# Altium integrated library WE-CBF (rev24a).IntLib: 180 symbols (part 2 of 4)
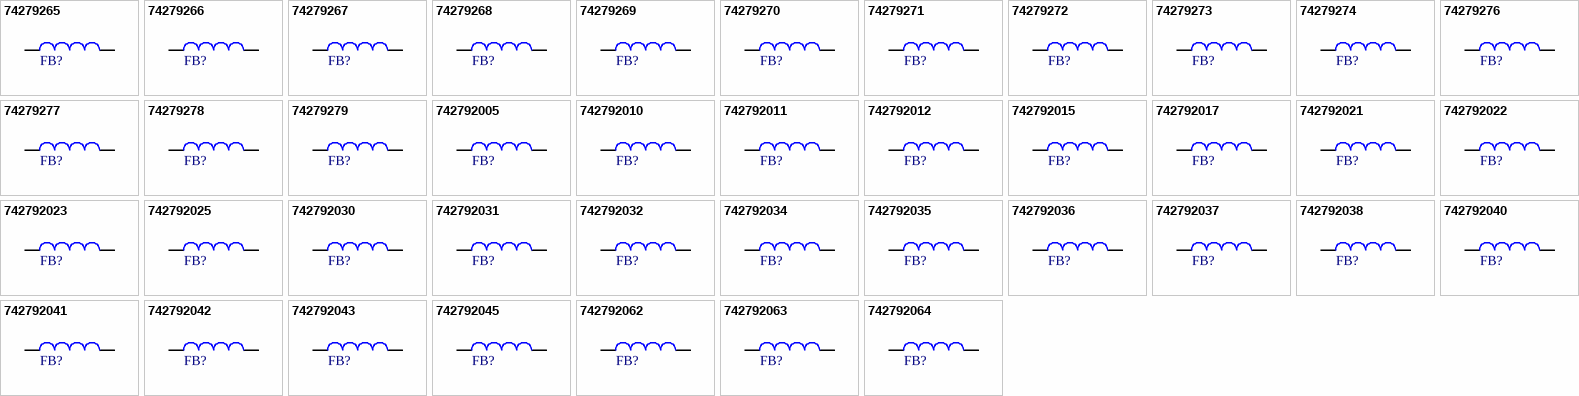
[diagram p5: symbols 74279265 to 742792064]

## 742792005
designator FB?, comment 5Ohm  (value not drawn)
WE-CBF SMT EMI Suppression Ferrite Bead, size 0805, 5Ohm, 8A; Manufacturer Part Number: 742792005; Manufacturer: Wurth Elektronik; Case/Size Code: 0805; DC Resistance Max: 0.07Ohm; Impedance Max: 18Ohm; Impedance Max Test Condition: 1000MHz; Type: High Speed; Category: Ferrites for PCB Assembly; Match Code: WE-CBF; ComponentLink1Description: Website Link; ComponentLink1URL: https://www.we-online.com/redexpert/article/742792005?ad; ComponentLink2Description: Datasheet Link; ComponentLink2URL: https://www.we-online.com/redexpert/spec/742792005?ad; Mount: Surface Mount; Operating Temperature Max: 125°C; Operating Temperature Min: -55°C; Packaging: Tape and Reel; Length: 2mm; Width: 1.2mm; Height: 0.9mm; Impedance @100MHz: 5Ohm; Rated Current: 8A
footprint WE-CBF_0805_L2W1.2H0.9_HS/WB
simulation model 0805_742792005_5ohm
pins: 1, 2

## 742792010
designator FB?, comment 7Ohm  (value not drawn)
WE-CBF SMT EMI Suppression Ferrite Bead, size 0805, 7Ohm, 3A; Manufacturer Part Number: 742792010; Manufacturer: Wurth Elektronik; Case/Size Code: 0805; DC Resistance Max: 0.03Ohm; Impedance Max: 11Ohm; Impedance Max Test Condition: 1000MHz; Type: High Current; Category: Ferrites for PCB Assembly; Match Code: WE-CBF; ComponentLink1Description: Website Link; ComponentLink1URL: https://www.we-online.com/redexpert/article/742792010?ad; ComponentLink2Description: Datasheet Link; ComponentLink2URL: https://www.we-online.com/redexpert/spec/742792010?ad; Mount: Surface Mount; Operating Temperature Max: 125°C; Operating Temperature Min: -55°C; Packaging: Tape and Reel; Length: 2mm; Width: 1.2mm; Height: 0.9mm; Impedance @100MHz: 7Ohm; Rated Current: 3A
footprint WE-CBF_0805_L2W1.2H0.9_HC
simulation model 0805_742792010_7ohm
pins: 1, 2

## 742792011
designator FB?, comment 10Ohm  (value not drawn)
WE-CBF SMT EMI Suppression Ferrite Bead, size 0805, 10Ohm, 3A; Manufacturer Part Number: 742792011; Manufacturer: Wurth Elektronik; Case/Size Code: 0805; DC Resistance Max: 0.025Ohm; Impedance Max: 20Ohm; Impedance Max Test Condition: 1000MHz; Type: High Current; Category: Ferrites for PCB Assembly; Match Code: WE-CBF; ComponentLink1Description: Website Link; ComponentLink1URL: https://www.we-online.com/redexpert/article/742792011?ad; ComponentLink2Description: Datasheet Link; ComponentLink2URL: https://www.we-online.com/redexpert/spec/742792011?ad; Mount: Surface Mount; Operating Temperature Max: 125°C; Operating Temperature Min: -55°C; Packaging: Tape and Reel; Length: 2mm; Width: 1.2mm; Height: 0.9mm; Impedance @100MHz: 10Ohm; Rated Current: 3A
footprint WE-CBF_0805_L2W1.2H0.9_HC
simulation model 0805_742792011_10ohm
pins: 1, 2

## 742792012
designator FB?, comment 33Ohm  (value not drawn)
WE-CBF SMT EMI Suppression Ferrite Bead, size 0805, 33Ohm, 4A; Manufacturer Part Number: 742792012; Manufacturer: Wurth Elektronik; Case/Size Code: 0805; DC Resistance Max: 0.008Ohm; Impedance Max: 58Ohm; Impedance Max Test Condition: 800MHz; Type: High Current; Category: Ferrites for PCB Assembly; Match Code: WE-CBF; ComponentLink1Description: Website Link; ComponentLink1URL: https://www.we-online.com/redexpert/article/742792012?ad; ComponentLink2Description: Datasheet Link; ComponentLink2URL: https://www.we-online.com/redexpert/spec/742792012?ad; Mount: Surface Mount; Operating Temperature Max: 125°C; Operating Temperature Min: -55°C; Packaging: Tape and Reel; Length: 2mm; Width: 1.2mm; Height: 0.9mm; Impedance @100MHz: 33Ohm; Rated Current: 4A
footprint WE-CBF_0805_L2W1.2H0.9_HC
simulation model 0805_742792012_33ohm
pins: 1, 2

## 742792015
designator FB?, comment 56Ohm  (value not drawn)
WE-CBF SMT EMI Suppression Ferrite Bead, size 0805, 56Ohm, 1.8A; Manufacturer Part Number: 742792015; Manufacturer: Wurth Elektronik; Case/Size Code: 0805; DC Resistance Max: 0.3Ohm; Impedance Max: 230Ohm; Impedance Max Test Condition: 800MHz; Type: Wide Band; Category: Ferrites for PCB Assembly; Match Code: WE-CBF; ComponentLink1Description: Website Link; ComponentLink1URL: https://www.we-online.com/redexpert/article/742792015?ad; ComponentLink2Description: Datasheet Link; ComponentLink2URL: https://www.we-online.com/redexpert/spec/742792015?ad; Mount: Surface Mount; Operating Temperature Max: 125°C; Operating Temperature Min: -55°C; Packaging: Tape and Reel; Length: 2mm; Width: 1.2mm; Height: 0.9mm; Impedance @100MHz: 56Ohm; Rated Current: 1.8A
footprint WE-CBF_0805_L2W1.2H0.9_HS/WB
simulation model 0805_742792015_56ohm
pins: 1, 2

## 742792017
designator FB?, comment 90Ohm  (value not drawn)
WE-CBF SMT EMI Suppression Ferrite Bead, size 0805, 90Ohm, 3.5A; Manufacturer Part Number: 742792017; Manufacturer: Wurth Elektronik; Case/Size Code: 0805; DC Resistance Max: 0.02Ohm; Impedance Max: 120Ohm; Impedance Max Test Condition: 400MHz; Type: High Current; Category: Ferrites for PCB Assembly; Match Code: WE-CBF; ComponentLink1Description: Website Link; ComponentLink1URL: https://www.we-online.com/redexpert/article/742792017?ad; ComponentLink2Description: Datasheet Link; ComponentLink2URL: https://www.we-online.com/redexpert/spec/742792017?ad; Mount: Surface Mount; Operating Temperature Max: 125°C; Operating Temperature Min: -55°C; Packaging: Tape and Reel; Length: 2mm; Width: 1.2mm; Height: 0.9mm; Impedance @100MHz: 90Ohm; Rated Current: 3.5A
footprint WE-CBF_0805_L2W1.2H0.9_HC
simulation model 0805_742792017_90ohm
pins: 1, 2

## 742792021
designator FB?, comment 22Ohm  (value not drawn)
WE-CBF SMT EMI Suppression Ferrite Bead, size 0805, 22Ohm, 6A; Manufacturer Part Number: 742792021; Manufacturer: Wurth Elektronik; Case/Size Code: 0805; DC Resistance Max: 0.008Ohm; Impedance Max: 40Ohm; Impedance Max Test Condition: 1000MHz; Type: High Current; Category: Ferrites for PCB Assembly; Match Code: WE-CBF; ComponentLink1Description: Website Link; ComponentLink1URL: https://www.we-online.com/redexpert/article/742792021?ad; ComponentLink2Description: Datasheet Link; ComponentLink2URL: https://www.we-online.com/redexpert/spec/742792021?ad; Mount: Surface Mount; Operating Temperature Max: 125°C; Operating Temperature Min: -55°C; Packaging: Tape and Reel; Length: 2mm; Width: 1.2mm; Height: 0.9mm; Impedance @100MHz: 22Ohm; Rated Current: 6A
footprint WE-CBF_0805_L2W1.2H0.9_HC
simulation model 0805_742792021_22ohm
pins: 1, 2

## 742792022
designator FB?, comment 220Ohm  (value not drawn)
WE-CBF SMT EMI Suppression Ferrite Bead, size 0805, 220Ohm, 2A; Manufacturer Part Number: 742792022; Manufacturer: Wurth Elektronik; Case/Size Code: 0805; DC Resistance Max: 0.05Ohm; Impedance Max: 330Ohm; Impedance Max Test Condition: 300MHz; Type: High Current; Category: Ferrites for PCB Assembly; Match Code: WE-CBF; ComponentLink1Description: Website Link; ComponentLink1URL: https://www.we-online.com/redexpert/article/742792022?ad; ComponentLink2Description: Datasheet Link; ComponentLink2URL: https://www.we-online.com/redexpert/spec/742792022?ad; Mount: Surface Mount; Operating Temperature Max: 125°C; Operating Temperature Min: -55°C; Packaging: Tape and Reel; Length: 2mm; Width: 1.2mm; Height: 0.9mm; Impedance @100MHz: 220Ohm; Rated Current: 2A
footprint WE-CBF_0805_L2W1.2H0.9_HC
simulation model 0805_742792022_220ohm
pins: 1, 2

## 742792023
designator FB?, comment 120Ohm  (value not drawn)
WE-CBF SMT EMI Suppression Ferrite Bead, size 0805, 120Ohm, 3A; Manufacturer Part Number: 742792023; Manufacturer: Wurth Elektronik; Case/Size Code: 0805; DC Resistance Max: 0.03Ohm; Impedance Max: 180Ohm; Impedance Max Test Condition: 250MHz; Type: High Current; Category: Ferrites for PCB Assembly; Match Code: WE-CBF; ComponentLink1Description: Website Link; ComponentLink1URL: https://www.we-online.com/redexpert/article/742792023?ad; ComponentLink2Description: Datasheet Link; ComponentLink2URL: https://www.we-online.com/redexpert/spec/742792023?ad; Mount: Surface Mount; Operating Temperature Max: 125°C; Operating Temperature Min: -55°C; Packaging: Tape and Reel; Length: 2mm; Width: 1.2mm; Height: 0.9mm; Impedance @100MHz: 120Ohm; Rated Current: 3A
footprint WE-CBF_0805_L2W1.2H0.9_HC
simulation model 0805_742792023_120ohm
pins: 1, 2

## 742792025
designator FB?, comment 120Ohm  (value not drawn)
WE-CBF SMT EMI Suppression Ferrite Bead, size 0805, 120Ohm, 5A; Manufacturer Part Number: 742792025; Manufacturer: Wurth Elektronik; Case/Size Code: 0805; DC Resistance Max: 0.02Ohm; Impedance Max: 160Ohm; Impedance Max Test Condition: 400MHz; Type: High Current; Category: Ferrites for PCB Assembly; Match Code: WE-CBF; ComponentLink1Description: Website Link; ComponentLink1URL: https://www.we-online.com/redexpert/article/742792025?ad; ComponentLink2Description: Datasheet Link; ComponentLink2URL: https://www.we-online.com/redexpert/spec/742792025?ad; Mount: Surface Mount; Operating Temperature Max: 125°C; Operating Temperature Min: -55°C; Packaging: Tape and Reel; Length: 2mm; Width: 1.2mm; Height: 0.9mm; Impedance @100MHz: 120Ohm; Rated Current: 5A
footprint WE-CBF_0805_L2W1.2H0.9_HC
simulation model 0805_742792025_120ohm
pins: 1, 2

## 742792030
designator FB?, comment 30Ohm  (value not drawn)
WE-CBF SMT EMI Suppression Ferrite Bead, size 0805, 30Ohm, 10A; Manufacturer Part Number: 742792030; Manufacturer: Wurth Elektronik; Case/Size Code: 0805; DC Resistance Max: 0.003Ohm; Impedance Max: 39Ohm; Impedance Max Test Condition: 920MHz; Type: High Current; Category: Ferrites for PCB Assembly; Match Code: WE-CBF; ComponentLink1Description: Website Link; ComponentLink1URL: https://www.we-online.com/redexpert/article/742792030?ad; ComponentLink2Description: Datasheet Link; ComponentLink2URL: https://www.we-online.com/redexpert/spec/742792030?ad; Mount: Surface Mount; Operating Temperature Max: 125°C; Operating Temperature Min: -55°C; Packaging: Tape and Reel; Length: 2mm; Width: 1.2mm; Height: 0.9mm; Impedance @100MHz: 30Ohm; Rated Current: 10A
footprint WE-CBF_0805_L2W1.2H0.9_HC
simulation model 0805_742792030_30ohm
pins: 1, 2

## 742792031
designator FB?, comment 300Ohm  (value not drawn)
WE-CBF SMT EMI Suppression Ferrite Bead, size 0805, 300Ohm, 3A; Manufacturer Part Number: 742792031; Manufacturer: Wurth Elektronik; Case/Size Code: 0805; DC Resistance Max: 0.05Ohm; Impedance Max: 350Ohm; Impedance Max Test Condition: 200MHz; Type: High Current; Category: Ferrites for PCB Assembly; Match Code: WE-CBF; ComponentLink1Description: Website Link; ComponentLink1URL: https://www.we-online.com/redexpert/article/742792031?ad; ComponentLink2Description: Datasheet Link; ComponentLink2URL: https://www.we-online.com/redexpert/spec/742792031?ad; Mount: Surface Mount; Operating Temperature Max: 125°C; Operating Temperature Min: -55°C; Packaging: Tape and Reel; Length: 2mm; Width: 1.2mm; Height: 0.9mm; Impedance @100MHz: 300Ohm; Rated Current: 3A
footprint WE-CBF_0805_L2W1.2H0.9_HC
simulation model 0805_742792031_300ohm
pins: 1, 2

## 742792032
designator FB?, comment 400Ohm  (value not drawn)
WE-CBF SMT EMI Suppression Ferrite Bead, size 0805, 400Ohm, 1.5A; Manufacturer Part Number: 742792032; Manufacturer: Wurth Elektronik; Case/Size Code: 0805; DC Resistance Max: 0.3Ohm; Impedance Max: 500Ohm; Impedance Max Test Condition: 200MHz; Type: Wide Band; Category: Ferrites for PCB Assembly; Match Code: WE-CBF; ComponentLink1Description: Website Link; ComponentLink1URL: https://www.we-online.com/redexpert/article/742792032?ad; ComponentLink2Description: Datasheet Link; ComponentLink2URL: https://www.we-online.com/redexpert/spec/742792032?ad; Mount: Surface Mount; Operating Temperature Max: 125°C; Operating Temperature Min: -55°C; Packaging: Tape and Reel; Length: 2mm; Width: 1.2mm; Height: 0.9mm; Impedance @100MHz: 400Ohm; Rated Current: 1.5A
footprint WE-CBF_0805_L2W1.2H0.9_HS/WB
simulation model 0805_742792032_400ohm
pins: 1, 2

## 742792034
designator FB?, comment 220Ohm  (value not drawn)
WE-CBF SMT EMI Suppression Ferrite Bead, size 0805, 220Ohm, 2.8A; Manufacturer Part Number: 742792034; Manufacturer: Wurth Elektronik; Case/Size Code: 0805; DC Resistance Max: 0.3Ohm; Impedance Max: 300Ohm; Impedance Max Test Condition: 240MHz; Type: High Speed; Category: Ferrites for PCB Assembly; Match Code: WE-CBF; ComponentLink1Description: Website Link; ComponentLink1URL: https://www.we-online.com/redexpert/article/742792034?ad; ComponentLink2Description: Datasheet Link; ComponentLink2URL: https://www.we-online.com/redexpert/spec/742792034?ad; Mount: Surface Mount; Operating Temperature Max: 125°C; Operating Temperature Min: -55°C; Packaging: Tape and Reel; Length: 2mm; Width: 1.2mm; Height: 0.9mm; Impedance @100MHz: 220Ohm; Rated Current: 2.8A
footprint WE-CBF_0805_L2W1.2H0.9_HS/WB
simulation model 0805_742792034_220ohm
pins: 1, 2

## 742792035
designator FB?, comment 300Ohm  (value not drawn)
WE-CBF SMT EMI Suppression Ferrite Bead, size 0805, 300Ohm, 2.3A; Manufacturer Part Number: 742792035; Manufacturer: Wurth Elektronik; Case/Size Code: 0805; DC Resistance Max: 0.3Ohm; Impedance Max: 450Ohm; Impedance Max Test Condition: 220MHz; Type: High Speed; Category: Ferrites for PCB Assembly; Match Code: WE-CBF; ComponentLink1Description: Website Link; ComponentLink1URL: https://www.we-online.com/redexpert/article/742792035?ad; ComponentLink2Description: Datasheet Link; ComponentLink2URL: https://www.we-online.com/redexpert/spec/742792035?ad; Mount: Surface Mount; Operating Temperature Max: 125°C; Operating Temperature Min: -55°C; Packaging: Tape and Reel; Length: 2mm; Width: 1.2mm; Height: 0.9mm; Impedance @100MHz: 300Ohm; Rated Current: 2.3A
footprint WE-CBF_0805_L2W1.2H0.9_HS/WB
simulation model 0805_742792035_300ohm
pins: 1, 2

## 742792036
designator FB?, comment 470Ohm  (value not drawn)
WE-CBF SMT EMI Suppression Ferrite Bead, size 0805, 470Ohm, 1.8A; Manufacturer Part Number: 742792036; Manufacturer: Wurth Elektronik; Case/Size Code: 0805; DC Resistance Max: 0.3Ohm; Impedance Max: 560Ohm; Impedance Max Test Condition: 190MHz; Type: Wide Band; Category: Ferrites for PCB Assembly; Match Code: WE-CBF; ComponentLink1Description: Website Link; ComponentLink1URL: https://www.we-online.com/redexpert/article/742792036?ad; ComponentLink2Description: Datasheet Link; ComponentLink2URL: https://www.we-online.com/redexpert/spec/742792036?ad; Mount: Surface Mount; Operating Temperature Max: 125°C; Operating Temperature Min: -55°C; Packaging: Tape and Reel; Length: 2mm; Width: 1.2mm; Height: 0.9mm; Impedance @100MHz: 470Ohm; Rated Current: 1.8A
footprint WE-CBF_0805_L2W1.2H0.9_HS/WB
simulation model 0805_742792036_470ohm
pins: 1, 2

## 742792037
designator FB?, comment 330Ohm  (value not drawn)
WE-CBF SMT EMI Suppression Ferrite Bead, size 0805, 330Ohm, 2A; Manufacturer Part Number: 742792037; Manufacturer: Wurth Elektronik; Case/Size Code: 0805; DC Resistance Max: 0.08Ohm; Impedance Max: 375Ohm; Impedance Max Test Condition: 250MHz; Type: High Current; Category: Ferrites for PCB Assembly; Match Code: WE-CBF; ComponentLink1Description: Website Link; ComponentLink1URL: https://www.we-online.com/redexpert/article/742792037?ad; ComponentLink2Description: Datasheet Link; ComponentLink2URL: https://www.we-online.com/redexpert/spec/742792037?ad; Mount: Surface Mount; Operating Temperature Max: 125°C; Operating Temperature Min: -55°C; Packaging: Tape and Reel; Length: 2mm; Width: 1.2mm; Height: 0.9mm; Impedance @100MHz: 330Ohm; Rated Current: 2A
footprint WE-CBF_0805_L2W1.2H0.9_HC
simulation model 0805_742792037_330ohm
pins: 1, 2

## 742792038
designator FB?, comment 240Ohm  (value not drawn)
WE-CBF SMT EMI Suppression Ferrite Bead, size 0805, 240Ohm, 1.4A; Manufacturer Part Number: 742792038; Manufacturer: Wurth Elektronik; Case/Size Code: 0805; DC Resistance Max: 0.4Ohm; Impedance Max: 280Ohm; Impedance Max Test Condition: 250MHz; Type: Wide Band; Category: Ferrites for PCB Assembly; Match Code: WE-CBF; ComponentLink1Description: Website Link; ComponentLink1URL: https://www.we-online.com/redexpert/article/742792038?ad; ComponentLink2Description: Datasheet Link; ComponentLink2URL: https://www.we-online.com/redexpert/spec/742792038?ad; Mount: Surface Mount; Operating Temperature Max: 125°C; Operating Temperature Min: -55°C; Packaging: Tape and Reel; Length: 2mm; Width: 1.2mm; Height: 0.9mm; Impedance @100MHz: 240Ohm; Rated Current: 1.4A
footprint WE-CBF_0805_L2W1.2H0.9_HS/WB
simulation model 0805_742792038_240ohm
pins: 1, 2

## 742792040
designator FB?, comment 600Ohm  (value not drawn)
WE-CBF SMT EMI Suppression Ferrite Bead, size 0805, 600Ohm, 2A; Manufacturer Part Number: 742792040; Manufacturer: Wurth Elektronik; Case/Size Code: 0805; DC Resistance Max: 0.15Ohm; Impedance Max: 700Ohm; Impedance Max Test Condition: 150MHz; Type: High Current; Category: Ferrites for PCB Assembly; Match Code: WE-CBF; ComponentLink1Description: Website Link; ComponentLink1URL: https://www.we-online.com/redexpert/article/742792040?ad; ComponentLink2Description: Datasheet Link; ComponentLink2URL: https://www.we-online.com/redexpert/spec/742792040?ad; Mount: Surface Mount; Operating Temperature Max: 125°C; Operating Temperature Min: -55°C; Packaging: Tape and Reel; Length: 2mm; Width: 1.2mm; Height: 0.9mm; Impedance @100MHz: 600Ohm; Rated Current: 2A
footprint WE-CBF_0805_L2W1.2H0.9_HC
simulation model 0805_742792040_600ohm
pins: 1, 2

## 742792041
designator FB?, comment 600Ohm  (value not drawn)
WE-CBF SMT EMI Suppression Ferrite Bead, size 0805, 600Ohm, 1.5A; Manufacturer Part Number: 742792041; Manufacturer: Wurth Elektronik; Case/Size Code: 0805; DC Resistance Max: 0.4Ohm; Impedance Max: 700Ohm; Impedance Max Test Condition: 160MHz; Type: Wide Band; Category: Ferrites for PCB Assembly; Match Code: WE-CBF; ComponentLink1Description: Website Link; ComponentLink1URL: https://www.we-online.com/redexpert/article/742792041?ad; ComponentLink2Description: Datasheet Link; ComponentLink2URL: https://www.we-online.com/redexpert/spec/742792041?ad; Mount: Surface Mount; Operating Temperature Max: 125°C; Operating Temperature Min: -55°C; Packaging: Tape and Reel; Length: 2mm; Width: 1.2mm; Height: 0.9mm; Impedance @100MHz: 600Ohm; Rated Current: 1.5A
footprint WE-CBF_0805_L2W1.2H0.9_HS/WB
simulation model 0805_742792041_600ohm
pins: 1, 2

## 742792042
designator FB?, comment 600Ohm  (value not drawn)
WE-CBF SMT EMI Suppression Ferrite Bead, size 0805, 600Ohm, 0.9A; Manufacturer Part Number: 742792042; Manufacturer: Wurth Elektronik; Case/Size Code: 0805; DC Resistance Max: 0.5Ohm; Impedance Max: 3000Ohm; Impedance Max Test Condition: 180MHz; Type: High Speed; Category: Ferrites for PCB Assembly; Match Code: WE-CBF; ComponentLink1Description: Website Link; ComponentLink1URL: https://www.we-online.com/redexpert/article/742792042?ad; ComponentLink2Description: Datasheet Link; ComponentLink2URL: https://www.we-online.com/redexpert/spec/742792042?ad; Mount: Surface Mount; Operating Temperature Max: 125°C; Operating Temperature Min: -55°C; Packaging: Tape and Reel; Length: 2mm; Width: 1.2mm; Height: 0.9mm; Impedance @100MHz: 600Ohm; Rated Current: 0.9A
footprint WE-CBF_0805_L2W1.2H0.9_HS/WB
simulation model 0805_742792042_600ohm
pins: 1, 2

## 742792043
designator FB?, comment 600Ohm  (value not drawn)
WE-CBF SMT EMI Suppression Ferrite Bead, size 0805, 600Ohm, 0.9A; Manufacturer Part Number: 742792043; Manufacturer: Wurth Elektronik; Case/Size Code: 0805; DC Resistance Max: 0.65Ohm; Impedance Max: 4800Ohm; Impedance Max Test Condition: 190MHz; Type: High Speed; Category: Ferrites for PCB Assembly; Match Code: WE-CBF; ComponentLink1Description: Website Link; ComponentLink1URL: https://www.we-online.com/redexpert/article/742792043?ad; ComponentLink2Description: Datasheet Link; ComponentLink2URL: https://www.we-online.com/redexpert/spec/742792043?ad; Mount: Surface Mount; Operating Temperature Max: 125°C; Operating Temperature Min: -55°C; Packaging: Tape and Reel; Length: 2mm; Width: 1.2mm; Height: 0.9mm; Impedance @100MHz: 600Ohm; Rated Current: 0.9A
footprint WE-CBF_0805_L2W1.2H0.9_HS/WB
simulation model 0805_742792043_600ohm
pins: 1, 2

## 742792045
designator FB?, comment 750Ohm  (value not drawn)
WE-CBF SMT EMI Suppression Ferrite Bead, size 0805, 750Ohm, 0.9A; Manufacturer Part Number: 742792045; Manufacturer: Wurth Elektronik; Case/Size Code: 0805; DC Resistance Max: 0.3Ohm; Impedance Max: 1000Ohm; Impedance Max Test Condition: 180MHz; Type: High Speed; Category: Ferrites for PCB Assembly; Match Code: WE-CBF; ComponentLink1Description: Website Link; ComponentLink1URL: https://www.we-online.com/redexpert/article/742792045?ad; ComponentLink2Description: Datasheet Link; ComponentLink2URL: https://www.we-online.com/redexpert/spec/742792045?ad; Mount: Surface Mount; Operating Temperature Max: 125°C; Operating Temperature Min: -55°C; Packaging: Tape and Reel; Length: 2mm; Width: 1.2mm; Height: 0.9mm; Impedance @100MHz: 750Ohm; Rated Current: 0.9A
footprint WE-CBF_0805_L2W1.2H0.9_HS/WB
simulation model 0805_742792045_750ohm
pins: 1, 2

## 742792062
designator FB?, comment 80Ohm  (value not drawn)
WE-CBF SMT EMI Suppression Ferrite Bead, size 0805, 80Ohm, 3.1A; Manufacturer Part Number: 742792062; Manufacturer: Wurth Elektronik; Case/Size Code: 0805; DC Resistance Max: 0.2Ohm; Impedance Max: 200Ohm; Impedance Max Test Condition: 400MHz; Type: Wide Band; Category: Ferrites for PCB Assembly; Match Code: WE-CBF; ComponentLink1Description: Website Link; ComponentLink1URL: https://www.we-online.com/redexpert/article/742792062?ad; ComponentLink2Description: Datasheet Link; ComponentLink2URL: https://www.we-online.com/redexpert/spec/742792062?ad; Mount: Surface Mount; Operating Temperature Max: 125°C; Operating Temperature Min: -55°C; Packaging: Tape and Reel; Length: 2mm; Width: 1.2mm; Height: 0.9mm; Impedance @100MHz: 80Ohm; Rated Current: 3.1A
footprint WE-CBF_0805_L2W1.2H0.9_HS/WB
simulation model 0805_742792062_80ohm
pins: 1, 2

## 742792063
designator FB?, comment 60Ohm  (value not drawn)
WE-CBF SMT EMI Suppression Ferrite Bead, size 0805, 60Ohm, 3A; Manufacturer Part Number: 742792063; Manufacturer: Wurth Elektronik; Case/Size Code: 0805; DC Resistance Max: 0.025Ohm; Impedance Max: 90Ohm; Impedance Max Test Condition: 500MHz; Type: High Current; Category: Ferrites for PCB Assembly; Match Code: WE-CBF; ComponentLink1Description: Website Link; ComponentLink1URL: https://www.we-online.com/redexpert/article/742792063?ad; ComponentLink2Description: Datasheet Link; ComponentLink2URL: https://www.we-online.com/redexpert/spec/742792063?ad; Mount: Surface Mount; Operating Temperature Max: 125°C; Operating Temperature Min: -55°C; Packaging: Tape and Reel; Length: 2mm; Width: 1.2mm; Height: 0.9mm; Impedance @100MHz: 60Ohm; Rated Current: 3A
footprint WE-CBF_0805_L2W1.2H0.9_HC
simulation model 0805_742792063_60ohm
pins: 1, 2

## 742792064
designator FB?, comment 75Ohm  (value not drawn)
WE-CBF SMT EMI Suppression Ferrite Bead, size 0805, 75Ohm, 1.7A; Manufacturer Part Number: 742792064; Manufacturer: Wurth Elektronik; Case/Size Code: 0805; DC Resistance Max: 0.2Ohm; Impedance Max: 300Ohm; Impedance Max Test Condition: 500MHz; Type: High Speed; Category: Ferrites for PCB Assembly; Match Code: WE-CBF; ComponentLink1Description: Website Link; ComponentLink1URL: https://www.we-online.com/redexpert/article/742792064?ad; ComponentLink2Description: Datasheet Link; ComponentLink2URL: https://www.we-online.com/redexpert/spec/742792064?ad; Mount: Surface Mount; Operating Temperature Max: 125°C; Operating Temperature Min: -55°C; Packaging: Tape and Reel; Length: 2mm; Width: 1.2mm; Height: 0.9mm; Impedance @100MHz: 75Ohm; Rated Current: 1.7A
footprint WE-CBF_0805_L2W1.2H0.9_HS/WB
simulation model 0805_742792064_75ohm
pins: 1, 2

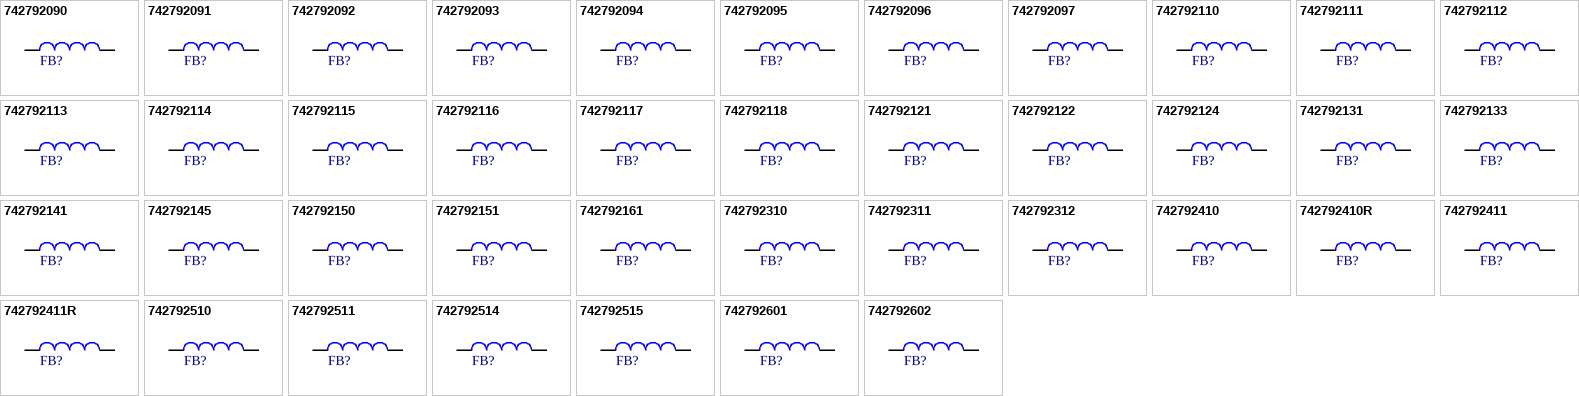
[diagram p2: symbols 742792090 to 742792602]

## 742792090
designator FB?, comment 1800Ohm  (value not drawn)
WE-CBF SMT EMI Suppression Ferrite Bead, size 0805, 1800Ohm, 1A; Manufacturer Part Number: 742792090; Manufacturer: Wurth Elektronik; Case/Size Code: 0805; DC Resistance Max: 0.4Ohm; Impedance Max: 2000Ohm; Impedance Max Test Condition: 120MHz; Type: Wide Band; Category: Ferrites for PCB Assembly; Match Code: WE-CBF; ComponentLink1Description: Website Link; ComponentLink1URL: https://www.we-online.com/redexpert/article/742792090?ad; ComponentLink2Description: Datasheet Link; ComponentLink2URL: https://www.we-online.com/redexpert/spec/742792090?ad; Mount: Surface Mount; Operating Temperature Max: 125°C; Operating Temperature Min: -55°C; Packaging: Tape and Reel; Length: 2mm; Width: 1.2mm; Height: 0.9mm; Impedance @100MHz: 1800Ohm; Rated Current: 1A
footprint WE-CBF_0805_L2W1.2H0.9_HS/WB
simulation model 0805_742792090_1800ohm
pins: 1, 2

## 742792091
designator FB?, comment 1500Ohm  (value not drawn)
WE-CBF SMT EMI Suppression Ferrite Bead, size 0805, 1500Ohm, 1A; Manufacturer Part Number: 742792091; Manufacturer: Wurth Elektronik; Case/Size Code: 0805; DC Resistance Max: 0.55Ohm; Impedance Max Test Condition: 100MHz; Type: Wide Band; Category: Ferrites for PCB Assembly; Match Code: WE-CBF; ComponentLink1Description: Website Link; ComponentLink1URL: https://www.we-online.com/redexpert/article/742792091?ad; ComponentLink2Description: Datasheet Link; ComponentLink2URL: https://www.we-online.com/redexpert/spec/742792091?ad; Mount: Surface Mount; Operating Temperature Max: 125°C; Operating Temperature Min: -55°C; Packaging: Tape and Reel; Length: 2mm; Width: 1.2mm; Height: 0.9mm; Impedance @100MHz: 1500Ohm; Impedance Max: 1500Ohm; Rated Current: 1A
footprint WE-CBF_0805_L2W1.2H0.9_HS/WB
simulation model 0805_742792091_1500ohm
pins: 1, 2

## 742792092
designator FB?, comment 2000Ohm  (value not drawn)
WE-CBF SMT EMI Suppression Ferrite Bead, size 0805, 2000Ohm, 0.8A; Manufacturer Part Number: 742792092; Manufacturer: Wurth Elektronik; Case/Size Code: 0805; DC Resistance Max: 0.6Ohm; Impedance Max Test Condition: 100MHz; Type: Wide Band; Category: Ferrites for PCB Assembly; Match Code: WE-CBF; ComponentLink1Description: Website Link; ComponentLink1URL: https://www.we-online.com/redexpert/article/742792092?ad; ComponentLink2Description: Datasheet Link; ComponentLink2URL: https://www.we-online.com/redexpert/spec/742792092?ad; Mount: Surface Mount; Operating Temperature Max: 125°C; Operating Temperature Min: -55°C; Packaging: Tape and Reel; Length: 2mm; Width: 1.2mm; Height: 0.9mm; Impedance @100MHz: 2000Ohm; Impedance Max: 2000Ohm; Rated Current: 0.8A
footprint WE-CBF_0805_L2W1.2H0.9_HS/WB
simulation model 0805_742792092_2000ohm
pins: 1, 2

## 742792093
designator FB?, comment 2200Ohm  (value not drawn)
WE-CBF SMT EMI Suppression Ferrite Bead, size 0805, 2200Ohm, 0.8A; Manufacturer Part Number: 742792093; Manufacturer: Wurth Elektronik; Case/Size Code: 0805; DC Resistance Max: 0.6Ohm; Impedance Max: 3000Ohm; Impedance Max Test Condition: 80MHz; Type: Wide Band; Category: Ferrites for PCB Assembly; Match Code: WE-CBF; ComponentLink1Description: Website Link; ComponentLink1URL: https://www.we-online.com/redexpert/article/742792093?ad; ComponentLink2Description: Datasheet Link; ComponentLink2URL: https://www.we-online.com/redexpert/spec/742792093?ad; Mount: Surface Mount; Operating Temperature Max: 125°C; Operating Temperature Min: -55°C; Packaging: Tape and Reel; Length: 2mm; Width: 1.2mm; Height: 0.9mm; Impedance @100MHz: 2200Ohm; Rated Current: 0.8A
footprint WE-CBF_0805_L2W1.2H0.9_HS/WB
simulation model 0805_742792093_2200ohm
pins: 1, 2

## 742792094
designator FB?, comment 2200Ohm  (value not drawn)
WE-CBF SMT EMI Suppression Ferrite Bead, size 0805, 2200Ohm, 1A; Manufacturer Part Number: 742792094; Manufacturer: Wurth Elektronik; Case/Size Code: 0805; DC Resistance Max: 0.5Ohm; Impedance Max Test Condition: 100MHz; Type: Wide Band; Category: Ferrites for PCB Assembly; Match Code: WE-CBF; ComponentLink1Description: Website Link; ComponentLink1URL: https://www.we-online.com/redexpert/article/742792094?ad; ComponentLink2Description: Datasheet Link; ComponentLink2URL: https://www.we-online.com/redexpert/spec/742792094?ad; Mount: Surface Mount; Operating Temperature Max: 125°C; Operating Temperature Min: -55°C; Packaging: Tape and Reel; Length: 2mm; Width: 1.2mm; Height: 0.9mm; Impedance @100MHz: 2200Ohm; Impedance Max: 2200Ohm; Rated Current: 1A
footprint WE-CBF_0805_L2W1.2H0.9_HS/WB
simulation model 0805_742792094_2200ohm
pins: 1, 2

## 742792095
designator FB?, comment 2700Ohm  (value not drawn)
WE-CBF SMT EMI Suppression Ferrite Bead, size 0805, 2700Ohm, 1A; Manufacturer Part Number: 742792095; Manufacturer: Wurth Elektronik; Case/Size Code: 0805; DC Resistance Max: 0.6Ohm; Impedance Max Test Condition: 100MHz; Type: Wide Band; Category: Ferrites for PCB Assembly; Match Code: WE-CBF; ComponentLink1Description: Website Link; ComponentLink1URL: https://www.we-online.com/redexpert/article/742792095?ad; ComponentLink2Description: Datasheet Link; ComponentLink2URL: https://www.we-online.com/redexpert/spec/742792095?ad; Mount: Surface Mount; Operating Temperature Max: 125°C; Operating Temperature Min: -55°C; Packaging: Tape and Reel; Length: 2mm; Width: 1.2mm; Height: 0.9mm; Impedance @100MHz: 2700Ohm; Impedance Max: 2700Ohm; Rated Current: 1A
footprint WE-CBF_0805_L2W1.2H0.9_HS/WB
simulation model 0805_742792095_2700ohm
pins: 1, 2

## 742792096
designator FB?, comment 1000Ohm  (value not drawn)
WE-CBF SMT EMI Suppression Ferrite Bead, size 0805, 1000Ohm, 1A; Manufacturer Part Number: 742792096; Manufacturer: Wurth Elektronik; Case/Size Code: 0805; DC Resistance Max: 0.3Ohm; Impedance Max Test Condition: 100MHz; Type: High Current; Category: Ferrites for PCB Assembly; Match Code: WE-CBF; ComponentLink1Description: Website Link; ComponentLink1URL: https://www.we-online.com/redexpert/article/742792096?ad; ComponentLink2Description: Datasheet Link; ComponentLink2URL: https://www.we-online.com/redexpert/spec/742792096?ad; Mount: Surface Mount; Operating Temperature Max: 125°C; Operating Temperature Min: -55°C; Packaging: Tape and Reel; Length: 2mm; Width: 1.2mm; Height: 0.9mm; Impedance @100MHz: 1000Ohm; Impedance Max: 1000Ohm; Rated Current: 1A
footprint WE-CBF_0805_L2W1.2H0.9_HC
simulation model 0805_742792096_1000ohm
pins: 1, 2

## 742792097
designator FB?, comment 1500Ohm  (value not drawn)
WE-CBF SMT EMI Suppression Ferrite Bead, size 0805, 1500Ohm, 1A; Manufacturer Part Number: 742792097; Manufacturer: Wurth Elektronik; Case/Size Code: 0805; DC Resistance Max: 0.3Ohm; Impedance Max: 1800Ohm; Impedance Max Test Condition: 70MHz; Type: High Current; Category: Ferrites for PCB Assembly; Match Code: WE-CBF; ComponentLink1Description: Website Link; ComponentLink1URL: https://www.we-online.com/redexpert/article/742792097?ad; ComponentLink2Description: Datasheet Link; ComponentLink2URL: https://www.we-online.com/redexpert/spec/742792097?ad; Mount: Surface Mount; Operating Temperature Max: 125°C; Operating Temperature Min: -55°C; Packaging: Tape and Reel; Length: 2mm; Width: 1.2mm; Height: 0.9mm; Impedance @100MHz: 1500Ohm; Rated Current: 1A
footprint WE-CBF_0805_L2W1.2H0.9_HC
simulation model 0805_742792097_1500ohm
pins: 1, 2

## 742792110
designator FB?, comment 19Ohm  (value not drawn)
WE-CBF SMT EMI Suppression Ferrite Bead, size 1206, 19Ohm, 3A; Manufacturer Part Number: 742792110; Manufacturer: Wurth Elektronik; Case/Size Code: 1206; DC Resistance Max: 0.04Ohm; Impedance Max: 73Ohm; Impedance Max Test Condition: 1000MHz; Type: High Current; Category: Ferrites for PCB Assembly; Match Code: WE-CBF; ComponentLink1Description: Website Link; ComponentLink1URL: https://www.we-online.com/redexpert/article/742792110?ad; ComponentLink2Description: Datasheet Link; ComponentLink2URL: https://www.we-online.com/redexpert/spec/742792110?ad; Mount: Surface Mount; Operating Temperature Max: 125°C; Operating Temperature Min: -55°C; Packaging: Tape and Reel; Length: 3.2mm; Width: 1.6mm; Height: 1.1mm; Impedance @100MHz: 19Ohm; Rated Current: 3A
footprint WE-CBF_1206_L3.2W1.6H1.1_HC
simulation model 1206_742792110_19ohm
pins: 1, 2

## 742792111
designator FB?, comment 26Ohm  (value not drawn)
WE-CBF SMT EMI Suppression Ferrite Bead, size 1206, 26Ohm, 3A; Manufacturer Part Number: 742792111; Manufacturer: Wurth Elektronik; Case/Size Code: 1206; DC Resistance Max: 0.04Ohm; Impedance Max: 40Ohm; Impedance Max Test Condition: 1000MHz; Type: High Current; Category: Ferrites for PCB Assembly; Match Code: WE-CBF; ComponentLink1Description: Website Link; ComponentLink1URL: https://www.we-online.com/redexpert/article/742792111?ad; ComponentLink2Description: Datasheet Link; ComponentLink2URL: https://www.we-online.com/redexpert/spec/742792111?ad; Mount: Surface Mount; Operating Temperature Max: 125°C; Operating Temperature Min: -55°C; Packaging: Tape and Reel; Length: 3.2mm; Width: 1.6mm; Height: 1.1mm; Impedance @100MHz: 26Ohm; Rated Current: 3A
footprint WE-CBF_1206_L3.2W1.6H1.1_HC
simulation model 1206_742792111_26ohm
pins: 1, 2

## 742792112
designator FB?, comment 31Ohm  (value not drawn)
WE-CBF SMT EMI Suppression Ferrite Bead, size 1206, 31Ohm, 3A; Manufacturer Part Number: 742792112; Manufacturer: Wurth Elektronik; Case/Size Code: 1206; DC Resistance Max: 0.04Ohm; Impedance Max: 52Ohm; Impedance Max Test Condition: 1000MHz; Type: High Current; Category: Ferrites for PCB Assembly; Match Code: WE-CBF; ComponentLink1Description: Website Link; ComponentLink1URL: https://www.we-online.com/redexpert/article/742792112?ad; ComponentLink2Description: Datasheet Link; ComponentLink2URL: https://www.we-online.com/redexpert/spec/742792112?ad; Mount: Surface Mount; Operating Temperature Max: 125°C; Operating Temperature Min: -55°C; Packaging: Tape and Reel; Length: 3.2mm; Width: 1.6mm; Height: 1.1mm; Impedance @100MHz: 31Ohm; Rated Current: 3A
footprint WE-CBF_1206_L3.2W1.6H1.1_HC
simulation model 1206_742792112_31ohm
pins: 1, 2

## 742792113
designator FB?, comment 120Ohm  (value not drawn)
WE-CBF SMT EMI Suppression Ferrite Bead, size 1206, 120Ohm, 3A; Manufacturer Part Number: 742792113; Manufacturer: Wurth Elektronik; Case/Size Code: 1206; DC Resistance Max: 0.03Ohm; Impedance Max: 180Ohm; Impedance Max Test Condition: 500MHz; Type: High Current; Category: Ferrites for PCB Assembly; Match Code: WE-CBF; ComponentLink1Description: Website Link; ComponentLink1URL: https://www.we-online.com/redexpert/article/742792113?ad; ComponentLink2Description: Datasheet Link; ComponentLink2URL: https://www.we-online.com/redexpert/spec/742792113?ad; Mount: Surface Mount; Operating Temperature Max: 125°C; Operating Temperature Min: -55°C; Packaging: Tape and Reel; Length: 3.2mm; Width: 1.6mm; Height: 1.1mm; Impedance @100MHz: 120Ohm; Rated Current: 3A
footprint WE-CBF_1206_L3.2W1.6H1.1_HC
simulation model 1206_742792113_120ohm
pins: 1, 2

## 742792114
designator FB?, comment 50Ohm  (value not drawn)
WE-CBF SMT EMI Suppression Ferrite Bead, size 1206, 50Ohm, 3A; Manufacturer Part Number: 742792114; Manufacturer: Wurth Elektronik; Case/Size Code: 1206; DC Resistance Max: 0.025Ohm; Impedance Max: 82Ohm; Impedance Max Test Condition: 1000MHz; Type: High Current; Category: Ferrites for PCB Assembly; Match Code: WE-CBF; ComponentLink1Description: Website Link; ComponentLink1URL: https://www.we-online.com/redexpert/article/742792114?ad; ComponentLink2Description: Datasheet Link; ComponentLink2URL: https://www.we-online.com/redexpert/spec/742792114?ad; Mount: Surface Mount; Operating Temperature Max: 125°C; Operating Temperature Min: -55°C; Packaging: Tape and Reel; Length: 3.2mm; Width: 1.6mm; Height: 1.1mm; Impedance @100MHz: 50Ohm; Rated Current: 3A
footprint WE-CBF_1206_L3.2W1.6H1.1_HC
simulation model 1206_742792114_50ohm
pins: 1, 2

## 742792115
designator FB?, comment 80Ohm  (value not drawn)
WE-CBF SMT EMI Suppression Ferrite Bead, size 1206, 80Ohm, 4A; Manufacturer Part Number: 742792115; Manufacturer: Wurth Elektronik; Case/Size Code: 1206; DC Resistance Max: 0.025Ohm; Impedance Max: 120Ohm; Impedance Max Test Condition: 500MHz; Type: High Current; Category: Ferrites for PCB Assembly; Match Code: WE-CBF; ComponentLink1Description: Website Link; ComponentLink1URL: https://www.we-online.com/redexpert/article/742792115?ad; ComponentLink2Description: Datasheet Link; ComponentLink2URL: https://www.we-online.com/redexpert/spec/742792115?ad; Mount: Surface Mount; Operating Temperature Max: 125°C; Operating Temperature Min: -55°C; Packaging: Tape and Reel; Length: 3.2mm; Width: 1.6mm; Height: 1.1mm; Impedance @100MHz: 80Ohm; Rated Current: 4A
footprint WE-CBF_1206_L3.2W1.6H1.1_HC
simulation model 1206_742792115_80ohm
pins: 1, 2

## 742792116
designator FB?, comment 500Ohm  (value not drawn)
WE-CBF SMT EMI Suppression Ferrite Bead, size 1206, 500Ohm, 2.5A; Manufacturer Part Number: 742792116; Manufacturer: Wurth Elektronik; Case/Size Code: 1206; DC Resistance Max: 0.06Ohm; Impedance Max: 610Ohm; Impedance Max Test Condition: 150MHz; Type: High Current; Category: Ferrites for PCB Assembly; Match Code: WE-CBF; ComponentLink1Description: Website Link; ComponentLink1URL: https://www.we-online.com/redexpert/article/742792116?ad; ComponentLink2Description: Datasheet Link; ComponentLink2URL: https://www.we-online.com/redexpert/spec/742792116?ad; Mount: Surface Mount; Operating Temperature Max: 125°C; Operating Temperature Min: -55°C; Packaging: Tape and Reel; Length: 3.2mm; Width: 1.6mm; Height: 1.1mm; Impedance @100MHz: 500Ohm; Rated Current: 2.5A
footprint WE-CBF_1206_L3.2W1.6H1.1_HC
simulation model 1206_742792116_500ohm
pins: 1, 2

## 742792117
designator FB?, comment 48Ohm  (value not drawn)
WE-CBF SMT EMI Suppression Ferrite Bead, size 1206, 48Ohm, 6A; Manufacturer Part Number: 742792117; Manufacturer: Wurth Elektronik; Case/Size Code: 1206; DC Resistance Max: 0.005Ohm; Impedance Max: 90Ohm; Impedance Max Test Condition: 600MHz; Type: High Current; Category: Ferrites for PCB Assembly; Match Code: WE-CBF; ComponentLink1Description: Website Link; ComponentLink1URL: https://www.we-online.com/redexpert/article/742792117?ad; ComponentLink2Description: Datasheet Link; ComponentLink2URL: https://www.we-online.com/redexpert/spec/742792117?ad; Mount: Surface Mount; Operating Temperature Max: 125°C; Operating Temperature Min: -55°C; Packaging: Tape and Reel; Length: 3.2mm; Width: 1.6mm; Height: 1.1mm; Impedance @100MHz: 48Ohm; Rated Current: 6A
footprint WE-CBF_1206_L3.2W1.6H1.1_HC
simulation model 1206_742792117_48ohm
pins: 1, 2

## 742792118
designator FB?, comment 600Ohm  (value not drawn)
WE-CBF SMT EMI Suppression Ferrite Bead, size 1206, 600Ohm, 2.5A; Manufacturer Part Number: 742792118; Manufacturer: Wurth Elektronik; Case/Size Code: 1206; DC Resistance Max: 0.07Ohm; Impedance Max: 650Ohm; Impedance Max Test Condition: 80MHz; Type: High Current; Category: Ferrites for PCB Assembly; Match Code: WE-CBF; ComponentLink1Description: Website Link; ComponentLink1URL: https://www.we-online.com/redexpert/article/742792118?ad; ComponentLink2Description: Datasheet Link; ComponentLink2URL: https://www.we-online.com/redexpert/spec/742792118?ad; Mount: Surface Mount; Operating Temperature Max: 125°C; Operating Temperature Min: -55°C; Packaging: Tape and Reel; Length: 3.2mm; Width: 1.6mm; Height: 1.1mm; Impedance @100MHz: 600Ohm; Rated Current: 2.5A
footprint WE-CBF_1206_L3.2W1.6H1.1_HC
simulation model 1206_742792118_600ohm
pins: 1, 2

## 742792121
designator FB?, comment 300Ohm  (value not drawn)
WE-CBF SMT EMI Suppression Ferrite Bead, size 1206, 300Ohm, 3A; Manufacturer Part Number: 742792121; Manufacturer: Wurth Elektronik; Case/Size Code: 1206; DC Resistance Max: 0.06Ohm; Impedance Max: 330Ohm; Impedance Max Test Condition: 110MHz; Type: High Current; Category: Ferrites for PCB Assembly; Match Code: WE-CBF; ComponentLink1Description: Website Link; ComponentLink1URL: https://www.we-online.com/redexpert/article/742792121?ad; ComponentLink2Description: Datasheet Link; ComponentLink2URL: https://www.we-online.com/redexpert/spec/742792121?ad; Mount: Surface Mount; Operating Temperature Max: 125°C; Operating Temperature Min: -55°C; Packaging: Tape and Reel; Length: 3.2mm; Width: 1.6mm; Height: 1.1mm; Impedance @100MHz: 300Ohm; Rated Current: 3A
footprint WE-CBF_1206_L3.2W1.6H1.1_HC
simulation model 1206_742792121_300ohm
pins: 1, 2

## 742792122
designator FB?, comment 220Ohm  (value not drawn)
WE-CBF SMT EMI Suppression Ferrite Bead, size 1206, 220Ohm, 3A; Manufacturer Part Number: 742792122; Manufacturer: Wurth Elektronik; Case/Size Code: 1206; DC Resistance Max: 0.3Ohm; Impedance Max: 240Ohm; Impedance Max Test Condition: 200MHz; Type: High Speed; Category: Ferrites for PCB Assembly; Match Code: WE-CBF; ComponentLink1Description: Website Link; ComponentLink1URL: https://www.we-online.com/redexpert/article/742792122?ad; ComponentLink2Description: Datasheet Link; ComponentLink2URL: https://www.we-online.com/redexpert/spec/742792122?ad; Mount: Surface Mount; Operating Temperature Max: 125°C; Operating Temperature Min: -55°C; Packaging: Tape and Reel; Length: 3.2mm; Width: 1.6mm; Height: 1.1mm; Impedance @100MHz: 220Ohm; Rated Current: 3A
footprint WE-CBF_1206_L3.2W1.6H1.1_HS/WB
simulation model 1206_742792122_220ohm
pins: 1, 2

## 742792124
designator FB?, comment 470Ohm  (value not drawn)
WE-CBF SMT EMI Suppression Ferrite Bead, size 1206, 470Ohm, 2.7A; Manufacturer Part Number: 742792124; Manufacturer: Wurth Elektronik; Case/Size Code: 1206; DC Resistance Max: 0.3Ohm; Impedance Max: 500Ohm; Impedance Max Test Condition: 140MHz; Type: Wide Band; Category: Ferrites for PCB Assembly; Match Code: WE-CBF; ComponentLink1Description: Website Link; ComponentLink1URL: https://www.we-online.com/redexpert/article/742792124?ad; ComponentLink2Description: Datasheet Link; ComponentLink2URL: https://www.we-online.com/redexpert/spec/742792124?ad; Mount: Surface Mount; Operating Temperature Max: 125°C; Operating Temperature Min: -55°C; Packaging: Tape and Reel; Length: 3.2mm; Width: 1.6mm; Height: 1.1mm; Impedance @100MHz: 470Ohm; Rated Current: 2.7A
footprint WE-CBF_1206_L3.2W1.6H1.1_HS/WB
simulation model 1206_742792124_470ohm
pins: 1, 2

## 742792131
designator FB?, comment 600Ohm  (value not drawn)
WE-CBF SMT EMI Suppression Ferrite Bead, size 1206, 600Ohm, 2.6A; Manufacturer Part Number: 742792131; Manufacturer: Wurth Elektronik; Case/Size Code: 1206; DC Resistance Max: 0.3Ohm; Impedance Max: 630Ohm; Impedance Max Test Condition: 90MHz; Type: Wide Band; Category: Ferrites for PCB Assembly; Match Code: WE-CBF; ComponentLink1Description: Website Link; ComponentLink1URL: https://www.we-online.com/redexpert/article/742792131?ad; ComponentLink2Description: Datasheet Link; ComponentLink2URL: https://www.we-online.com/redexpert/spec/742792131?ad; Mount: Surface Mount; Operating Temperature Max: 125°C; Operating Temperature Min: -55°C; Packaging: Tape and Reel; Length: 3.2mm; Width: 1.6mm; Height: 1.1mm; Impedance @100MHz: 600Ohm; Rated Current: 2.6A
footprint WE-CBF_1206_L3.2W1.6H1.1_HS/WB
simulation model 1206_742792131_600ohm
pins: 1, 2

## 742792133
designator FB?, comment 600Ohm  (value not drawn)
WE-CBF SMT EMI Suppression Ferrite Bead, size 1206, 600Ohm, 2.5A; Manufacturer Part Number: 742792133; Manufacturer: Wurth Elektronik; Case/Size Code: 1206; DC Resistance Max: 0.3Ohm; Impedance Max: 750Ohm; Impedance Max Test Condition: 60MHz; Type: Wide Band; Category: Ferrites for PCB Assembly; Match Code: WE-CBF; ComponentLink1Description: Website Link; ComponentLink1URL: https://www.we-online.com/redexpert/article/742792133?ad; ComponentLink2Description: Datasheet Link; ComponentLink2URL: https://www.we-online.com/redexpert/spec/742792133?ad; Mount: Surface Mount; Operating Temperature Max: 125°C; Operating Temperature Min: -55°C; Packaging: Tape and Reel; Length: 3.2mm; Width: 1.6mm; Height: 1.1mm; Impedance @100MHz: 600Ohm; Rated Current: 2.5A
footprint WE-CBF_1206_L3.2W1.6H1.1_HS/WB
simulation model 1206_742792133_600ohm
pins: 1, 2

## 742792141
designator FB?, comment 1000Ohm  (value not drawn)
WE-CBF SMT EMI Suppression Ferrite Bead, size 1206, 1000Ohm, 1A; Manufacturer Part Number: 742792141; Manufacturer: Wurth Elektronik; Case/Size Code: 1206; DC Resistance Max: 0.3Ohm; Impedance Max: 1100Ohm; Impedance Max Test Condition: 90MHz; Type: High Current; Category: Ferrites for PCB Assembly; Match Code: WE-CBF; ComponentLink1Description: Website Link; ComponentLink1URL: https://www.we-online.com/redexpert/article/742792141?ad; ComponentLink2Description: Datasheet Link; ComponentLink2URL: https://www.we-online.com/redexpert/spec/742792141?ad; Mount: Surface Mount; Operating Temperature Max: 125°C; Operating Temperature Min: -55°C; Packaging: Tape and Reel; Length: 3.2mm; Width: 1.6mm; Height: 1.1mm; Impedance @100MHz: 1000Ohm; Rated Current: 1A
footprint WE-CBF_1206_L3.2W1.6H1.1_HC
simulation model 1206_742792141_1000ohm
pins: 1, 2

## 742792145
designator FB?, comment 50Ohm  (value not drawn)
WE-CBF SMT EMI Suppression Ferrite Bead, size 1206, 50Ohm, 12A; Manufacturer Part Number: 742792145; Manufacturer: Wurth Elektronik; Case/Size Code: 1206; DC Resistance Max: 0.0019Ohm; Impedance Max: 67Ohm; Impedance Max Test Condition: 830MHz; Type: High Current; Category: Ferrites for PCB Assembly; Match Code: WE-CBF; ComponentLink1Description: Website Link; ComponentLink1URL: https://www.we-online.com/redexpert/article/742792145?ad; ComponentLink2Description: Datasheet Link; ComponentLink2URL: https://www.we-online.com/redexpert/spec/742792145?ad; Mount: Surface Mount; Operating Temperature Max: 125°C; Operating Temperature Min: -55°C; Packaging: Tape and Reel; Length: 3.2mm; Width: 1.6mm; Height: 1.1mm; Impedance @100MHz: 50Ohm; Rated Current: 12A
footprint WE-CBF_1206_L3.2W1.6H1.1_HC
pins: 1, 2

## 742792150
designator FB?, comment 80Ohm  (value not drawn)
WE-CBF SMT EMI Suppression Ferrite Bead, size 1206, 80Ohm, 4A; Manufacturer Part Number: 742792150; Manufacturer: Wurth Elektronik; Case/Size Code: 1206; DC Resistance Max: 0.02Ohm; Impedance Max: 160Ohm; Impedance Max Test Condition: 550MHz; Type: High Current; Category: Ferrites for PCB Assembly; Match Code: WE-CBF; ComponentLink1Description: Website Link; ComponentLink1URL: https://www.we-online.com/redexpert/article/742792150?ad; ComponentLink2Description: Datasheet Link; ComponentLink2URL: https://www.we-online.com/redexpert/spec/742792150?ad; Mount: Surface Mount; Operating Temperature Max: 125°C; Operating Temperature Min: -55°C; Packaging: Tape and Reel; Length: 3.2mm; Width: 1.6mm; Height: 1.1mm; Impedance @100MHz: 80Ohm; Rated Current: 4A
footprint WE-CBF_1206_L3.2W1.6H1.1_HC
simulation model 1206_742792150_80ohm
pins: 1, 2

## 742792151
designator FB?, comment 70Ohm  (value not drawn)
WE-CBF SMT EMI Suppression Ferrite Bead, size 1206, 70Ohm, 2.5A; Manufacturer Part Number: 742792151; Manufacturer: Wurth Elektronik; Case/Size Code: 1206; DC Resistance Max: 0.3Ohm; Impedance Max: 105Ohm; Impedance Max Test Condition: 600MHz; Type: High Speed; Category: Ferrites for PCB Assembly; Match Code: WE-CBF; ComponentLink1Description: Website Link; ComponentLink1URL: https://www.we-online.com/redexpert/article/742792151?ad; ComponentLink2Description: Datasheet Link; ComponentLink2URL: https://www.we-online.com/redexpert/spec/742792151?ad; Mount: Surface Mount; Operating Temperature Max: 125°C; Operating Temperature Min: -55°C; Packaging: Tape and Reel; Length: 3.2mm; Width: 1.6mm; Height: 1.1mm; Impedance @100MHz: 70Ohm; Rated Current: 2.5A
footprint WE-CBF_1206_L3.2W1.6H1.1_HS/WB
simulation model 1206_742792151_70ohm
pins: 1, 2

## 742792161
designator FB?, comment 1000Ohm  (value not drawn)
WE-CBF SMT EMI Suppression Ferrite Bead, size 1206, 1000Ohm, 1.1A; Manufacturer Part Number: 742792161; Manufacturer: Wurth Elektronik; Case/Size Code: 1206; DC Resistance Max: 0.5Ohm; Impedance Max: 1500Ohm; Impedance Max Test Condition: 50MHz; Type: Wide Band; Category: Ferrites for PCB Assembly; Match Code: WE-CBF; ComponentLink1Description: Website Link; ComponentLink1URL: https://www.we-online.com/redexpert/article/742792161?ad; ComponentLink2Description: Datasheet Link; ComponentLink2URL: https://www.we-online.com/redexpert/spec/742792161?ad; Mount: Surface Mount; Operating Temperature Max: 125°C; Operating Temperature Min: -55°C; Packaging: Tape and Reel; Length: 3.2mm; Width: 1.6mm; Height: 1.1mm; Impedance @100MHz: 1000Ohm; Rated Current: 1.1A
footprint WE-CBF_1206_L3.2W1.6H1.1_HS/WB
simulation model 1206_742792161_1000ohm
pins: 1, 2

## 742792310
designator FB?, comment 30Ohm  (value not drawn)
WE-CBF SMT EMI Suppression Ferrite Bead, size 1210, 30Ohm, 3A; Manufacturer Part Number: 742792310; Manufacturer: Wurth Elektronik; Case/Size Code: 1210; DC Resistance Max: 0.05Ohm; Impedance Max: 50Ohm; Impedance Max Test Condition: 900MHz; Type: High Current; Category: Ferrites for PCB Assembly; Match Code: WE-CBF; ComponentLink1Description: Website Link; ComponentLink1URL: https://www.we-online.com/redexpert/article/742792310?ad; ComponentLink2Description: Datasheet Link; ComponentLink2URL: https://www.we-online.com/redexpert/spec/742792310?ad; Mount: Surface Mount; Operating Temperature Max: 125°C; Operating Temperature Min: -55°C; Packaging: Tape and Reel; Length: 3.2mm; Width: 2.5mm; Height: 1.3mm; Impedance @100MHz: 30Ohm; Rated Current: 3A
footprint WE-CBF_1210_L3.2W2.5H1.3_HC
simulation model 1210_742792310_30ohm
pins: 1, 2